# EAGLE library part TUSB2046B (library ublox)
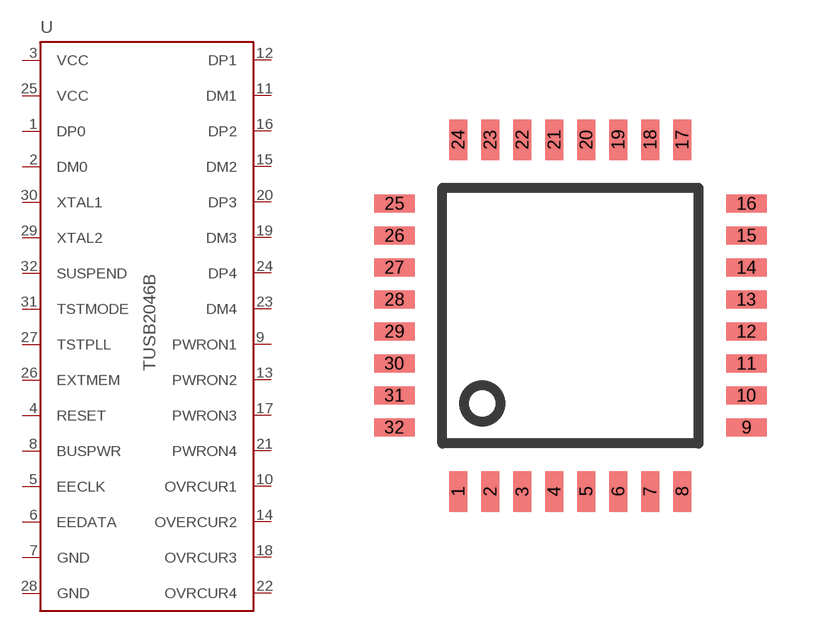
[diagram p7: symbol with the pads of SQFP32; footprint SQFP32]

Designator prefix -

## TUSB2046B  [SQFP32]
1  DP0
2  DM0
3  VCC  in
4  RESET  in
5  EECLK  out
6  EEDATA  in
7  GND
8  BUSPWR  in
9  PWRON1  out
10  OVRCUR1  in
11  DM1
12  DP1
13  PWRON2  out
14  OVERCUR2  in
15  DM2
16  DP2
17  PWRON3  out
18  OVRCUR3  in
19  DM3
20  DP3
21  PWRON4  out
22  OVRCUR4  in
23  DM4
24  DP4
25  VCC  in
26  EXTMEM  in
27  TSTPLL
28  GND
29  XTAL2  out
30  XTAL1  in
31  TSTMODE  in
32  SUSPEND  out

## Footprint SQFP32 (pad centres in mm)
QFP32
smd 0.457 x 1.016: 1 -2.8,-4.4; 2 -2,-4.4; 3 -1.2,-4.4; 4 -0.4,-4.4; 5 0.4,-4.4; 6 1.2,-4.4; 7 2,-4.4; 8 2.8,-4.4; 17 2.8,4.4; 18 2,4.4; 19 1.2,4.4; 20 0.4,4.4; 21 -0.4,4.4; 22 -1.2,4.4; 23 -2,4.4; 24 -2.8,4.4
smd 1.016 x 0.457: 9 4.4,-2.8; 10 4.4,-2; 11 4.4,-1.2; 12 4.4,-0.4; 13 4.4,0.4; 14 4.4,1.2; 15 4.4,2; 16 4.4,2.8; 25 -4.4,2.8; 26 -4.4,2; 27 -4.4,1.2; 28 -4.4,0.4; 29 -4.4,-0.4; 30 -4.4,-1.2; 31 -4.4,-2; 32 -4.4,-2.8